# Altium footprint library Tactile Button 4.5_4.5.PcbLib: 1 footprints
Each footprint in its own frame and in the unit in brackets; x right, y up, seen from the top. Pads: shape width x height; smd on the part's side, far side on the other; paste and mask are expansions set on the pad; w line width, h text height; cw(c..) or ccw(c..) is an arc to the next point about the centre after c.
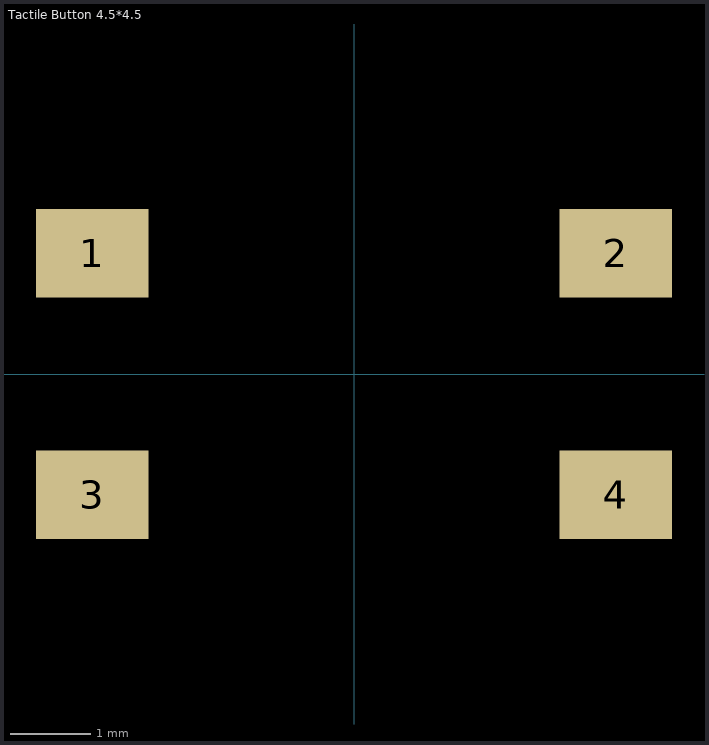
[diagram p0: the footprint, top view; thin cyan lines are the x and y axes]

## Tactile Button 4.5*4.5 [mm]
pads (4):
  rect 1.4x1.1 smd: 1(-3.25,1.5) 2(3.25,1.5) 3(-3.25,-1.5) 4(3.25,-1.5)
3D body "Tact Switch 4.5mm SMT.step": height 4.2, standoff 0, extent -3.75,-2.25 3.75,2.25